# Altium footprint library levitador_original.PcbLib: 19 footprints (part 1 of 2)
Each footprint in its own frame and in the unit in brackets; x right, y up, seen from the top. Pads: shape width x height; smd on the part's side, far side on the other; paste and mask are expansions set on the pad; w line width, h text height; cw(c..) or ccw(c..) is an arc to the next point about the centre after c.
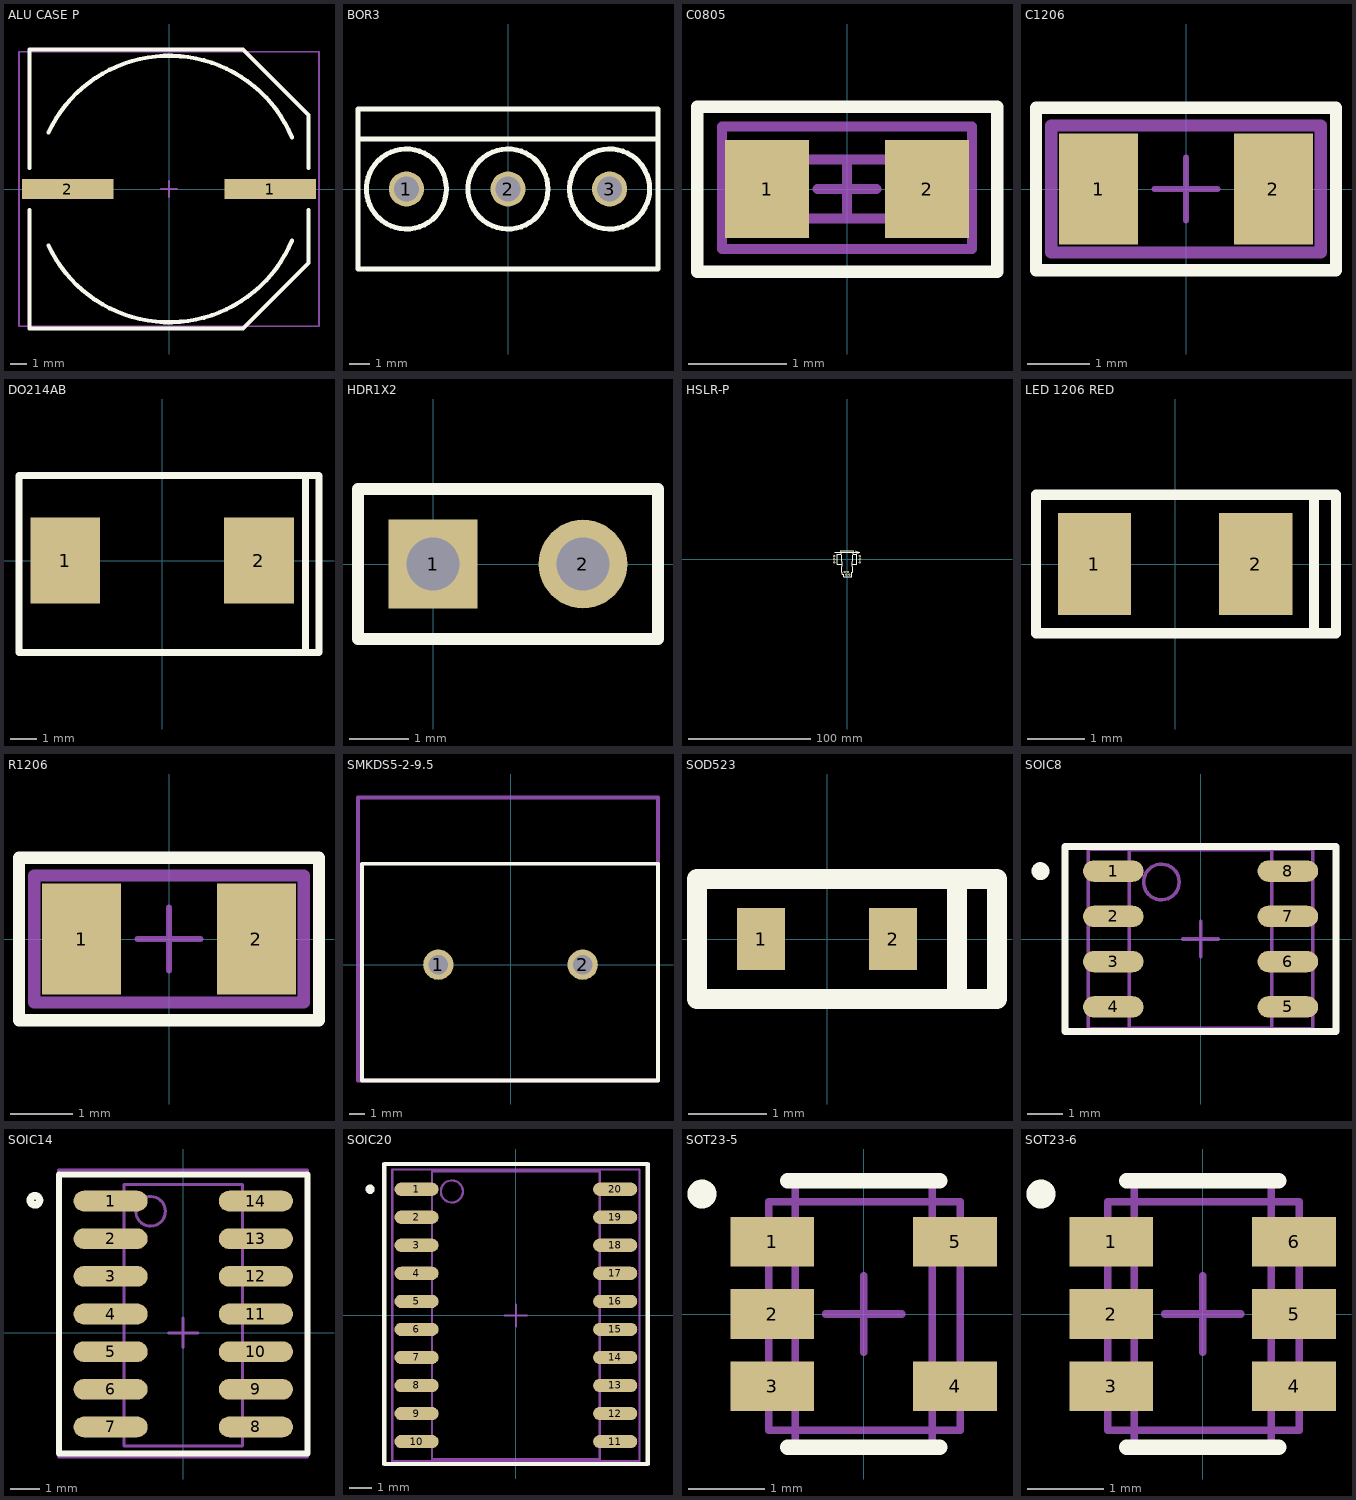
[diagram p0: the footprints below, top view; thin cyan lines are the x and y axes]

## ALU CASE P [mm] "SMD Aluminum Electrolytic; Case P; 16mm x 17mm (LxW)"
height 19
pads (2):
  rect 5.5x1.2 smd: 1(6.1,0) 2(-6.1,0)
Top Overlay:
  lines w0.254: -8.382,-1.27 -8.382,-8.382 4.445,-8.382 8.382,-4.445 8.382,-1.27 ; -8.382,1.27 -8.382,8.382 4.445,8.382 8.382,4.445 8.382,1.27 ; -7.236,-3.402 ccw(c0.01,-0.013) 7.394,-3.093 ; -7.236,3.402 cw(c0.01,0.013) 7.394,3.093
Mechanical 15:
  lines w0.1: -0.497,-0.003 0.503,-0.003 ; 0.003,-0.503 0.003,0.497 ; -9.017,-8.255 -9.017,8.255 9.017,8.255 9.017,-8.255 -9.017,-8.255
3D body: height 17.25, standoff 0.05, extent -8.65,-8.15 8.65,8.15

## BOR3 [mm] "Bornera con tornillos"
height 10.16
pads (3):
  round 1.75 hole 1.25: 1(-5.08,0) 2(0,0) 3(5.08,0)
Top Overlay:
  circle w0.254: c-5.08,0 r2
  circle w0.254: c0,0 r2
  circle w0.254: c5.08,0 r2
  lines w0.254: -7.5,2.5 2.5,2.5 7.5,2.5 ; -7.5,-4 -7.5,4 2.5,4 7.5,4 7.5,-4 -7.5,-4
3D body: height 15.2, standoff -3.5, extent -7.525,-4.453 7.475,4.547

## C0805 [mm] "Chip Capacitor, Body 2.0x1.3 mm"
height 0.4
pads (2):
  rect 0.85x1 smd: 1(-0.813,0) 2(0.813,0)
Top Overlay:
  lines w0.127: -1.524,-0.838 1.524,-0.838 1.524,0.838 -1.524,0.838 -1.524,-0.838
Mechanical 13:
  lines w0.1: -0.55,-0.3 0.55,-0.3 0.55,0.3 -0.55,0.3 -0.55,-0.3
Mechanical 15:
  lines w0.1: -0.3,0 0.3,0 ; 0,-0.3 0,0.3 ; -1.27,-0.61 1.27,-0.61 1.27,0.635 -1.27,0.635 -1.27,-0.61
3D body: height 0.78, standoff 0, extent -1,-0.615 1,0.635

## C1206 [mm] "Chip Capacitor, Body 3.0x1.5mm"
height 0.4
pads (2):
  rect 1.27x1.778 smd: 1(-1.4,0) 2(1.4,0)
Top Overlay:
  lines w0.2: -2.4,-1.3 2.4,-1.3 2.4,1.3 -2.4,1.3 -2.4,-1.3
Mechanical 15:
  lines w0.1: -0.5,0 0.5,0 ; 0,-0.5 0,0.5
  lines w0.2: -2.159,-1.016 2.159,-1.016 2.159,1.016 -2.159,1.016 -2.159,-1.016
3D body: height 1, standoff 0, extent -1.6,-0.8 1.6,0.8

## DO214AB [mil] "Diode; DO-214AB; 2 leads; Boby 6.9 x 5.9 mm (LxW)"
height 104.33
pads (2):
  rect 102x126 smd: 1(-142,0) 2(142,0)
Top Overlay:
  lines w10: 210,-135 210,125 ; -210,-135 -210,125 230,125 230,-135 -210,-135
3D body: height 103, standoff -1, extent -145,-129 175,119

## HDR1X2 [mm] "Connector; Header; 2 Position"
pads (2):
  rect 1.5x1.5 hole 0.9: 1(0,0)
  round 1.5 hole 0.9: 2(2.54,0)
Top Overlay:
  lines w0.2: -1.27,-1.27 -1.27,1.27 3.81,1.27 3.81,-1.27 -1.27,-1.27

## HSLR-P [mm]
height 12
pads (10):
  round 1.9 hole 1: 1(-1.905,-10.31) 2(-0.635,-12.51) 3(0.635,-10.31) 4(1.905,-12.51) 5(10.5,-2.54) 6(10.5,0) 7(10.5,2.54) 8(-10.5,2.54) 9(-10.5,0) 10(-10.5,-2.54)
Top Overlay:
  lines w0.254: -9.906,5.588 10.541,5.588 ; -4.572,3.937 -8.001,3.937 -8.001,-3.937 -4.064,-3.937 ; -4.4,-10.414 -3.81,-10.414 -3.81,-12.065 -2.54,-12.065 -2.54,-14.351 3.683,-14.351 3.683,-10.414 4.4,-10.414 ; -4.4,-10.4 ccw(c-63.301,-3.844) -5,6.8 5,6.8 ccw(c63.301,-3.844) 4.4,-10.4 ; 4.064,-3.937 8.001,-3.937 8.001,3.937 4.572,3.937 ; 6.731,4.191 10.541,5.588 ; 6.731,6.985 10.541,5.588
3D body: height 12, standoff 0, extent -4.953,-9.398 5.08,6.858

## LED 1206 RED [mm] "Led SMD 1206"
height 0.508
pads (2):
  rect 1.27x1.778 smd: 1(-1.4,0) 2(1.4,0)
Top Overlay:
  lines w0.178: 2.413,-1.2 2.794,-1.2 2.794,1.2 2.413,1.2 ; 2.413,-1.2 2.413,1.2 ; 2.413,-1.2 -2.413,-1.2 -2.413,1.2 2.413,1.2
3D body: height 0.2, standoff 0.13, extent -0.229,-0.229 0.229,0.229
3D body: height 0.13, standoff 0.03, extent -1.143,-0.508 0.356,0.508
3D body: height 0.5, standoff 0, extent 1.14,-0.779 1.752,0.804
3D body: height 0.5, standoff 0, extent -1.051,-0.776 1.158,0.81
3D body: height 0.5, standoff 0, extent -1.66,-0.779 -1.048,0.804

## R1206 [mm] "Chip Resistor, Body 3.0x1.5mm"
height 0.4
pads (2):
  rect 1.27x1.778 smd: 1(-1.4,0) 2(1.4,0)
Top Overlay:
  lines w0.2: -2.4,-1.3 2.4,-1.3 2.4,1.3 -2.4,1.3 -2.4,-1.3
Mechanical 15:
  lines w0.1: -0.5,0 0.5,0 ; 0,-0.5 0,0.5
  lines w0.2: -2.159,-1.016 2.159,-1.016 2.159,1.016 -2.159,1.016 -2.159,-1.016
3D body: height 1, standoff 0, extent -1.6,-0.8 1.6,0.8

## SMKDS5-2-9.5 [mm] "Phoenix Contact; Terminal block; 2way; 32A max; 9.52mm pitch; 135°"
height 21.5
pads (2):
  round 2 hole 1.3: 1(-4.76,0) 2(4.76,0)
Top Overlay:
  lines w0.254: -9.804,-7.645 9.728,-7.645 9.728,6.655 -9.804,6.655 -9.804,-7.645
Mechanical 13:
  lines w0.254: -10.058,-7.645 -10.058,11.024 9.728,11.024 9.728,-7.645 -10.058,-7.645
3D body: height 21.5, standoff -5, extent -10.084,-7.496 9.526,11.002

## SOD523 [mil] "Diode; SOD523 / SC-79 / SCD-80; 2 Leads; Body 1.2 x 0.8 mm, (LxW)"
height 31
pads (2):
  rect 24x31 smd: 1(-33,0) 2(33,0)
Top Overlay:
  lines w10: 65,-30 -65,-30 -65,30 65,30 ; 65,-30 65,30 ; 65,-30 85,-30 85,30 65,30
3D body: height 27.56, standoff 0, extent -31.5,-15.7 31.5,15.7

## SOIC8 [mm] "SOIC, 8-Leads, 150mils; Body 4.9x3.9mm, Pitch 1.27mm, IPC High Density"
height 2.72
pads (8):
  oval 1.7x0.6 smd: 1(-2.45,1.905) 2(-2.45,0.635) 3(-2.45,-0.635) 4(-2.45,-1.905) 5(2.45,-1.905) 6(2.45,-0.635) 7(2.45,0.635) 8(2.45,1.905)
Top Overlay:
  circle w0.25: c-4.494,1.905 r0.125
  lines w0.2: -3.8,-2.6 -3.8,2.6 3.8,2.6 3.8,-2.6 -3.8,-2.6
Mechanical 13:
  circle w0.1: c-1.1,1.6 r0.5
  lines w0.1: -2,-2.5 -2,2.5 2,2.5 2,-2.5 -2,-2.5
Mechanical 15:
  lines w0.1: -0.5,0 0.5,0 ; 0,-0.5 0,0.5 ; -3.15,-2.515 -3.15,2.515 3.15,2.515 3.15,-2.515 -3.15,-2.515
3D body: height 1.7, standoff 0, extent -3.099,-2.388 3.099,2.438

## SOIC14 [mm] "SOIC, 14-Leads, 150mils; Body 9.9x..mm, Pitch 1.27mm, IPC Low Density"
height 1.75
pads (14):
  oval 2.5x0.7 smd: 1(-2.45,4.445) 2(-2.45,3.175) 3(-2.45,1.905) 4(-2.45,0.635) 5(-2.45,-0.635) 6(-2.45,-1.905) 7(-2.45,-3.175) 8(2.45,-3.175) 9(2.45,-1.905) 10(2.45,-0.635) 11(2.45,0.635) 12(2.45,1.905) 13(2.45,3.175) 14(2.45,4.445)
Top Overlay:
  circle w0.25: c-5.002,4.47 r0.156
  lines w0.2: -4.191,-4.064 -4.191,5.334 4.191,5.334 4.191,-4.064 -4.191,-4.064
Mechanical 13:
  circle w0.1: c-1.1,4.1 r0.5
  lines w0.1: -2,-3.81 -2,5 2,5 2,-3.81 -2,-3.81
Mechanical 15:
  lines w0.1: -0.5,0 0.5,0 ; 0,-0.5 0,0.5 ; -4.2,-4.191 -4.2,5.5 4.2,5.5 4.2,-4.191 -4.2,-4.191
3D body: height 1.7, standoff 0, extent -3.124,-3.683 3.073,4.953

## SOIC20 [mm] "SOIC, 20-Leads, Body xxxx7.5mm, Pitch 1.27mm, IPC High Density"
height 2.65
pads (20):
  oval 2x0.6 smd: 1(-4.5,5.715) 2(-4.5,4.445) 3(-4.5,3.175) 4(-4.5,1.905) 5(-4.5,0.635) 6(-4.5,-0.635) 7(-4.5,-1.905) 8(-4.5,-3.175) 9(-4.5,-4.445) 10(-4.5,-5.715) 11(4.5,-5.715) 12(4.5,-4.445) 13(4.5,-3.175) 14(4.5,-1.905) 15(4.5,-0.635) 16(4.5,0.635) 17(4.5,1.905) 18(4.5,3.175) 19(4.5,4.445) 20(4.5,5.715)
Top Overlay:
  circle w0.25: c-6.6,5.715 r0.082
  lines w0.2: -5.969,-6.731 -5.969,6.858 5.969,6.858 5.969,-6.731 -5.969,-6.731
Mechanical 13:
  circle w0.1: c-2.9,5.615 r0.5
  lines w0.1: -3.8,-6.515 -3.8,6.515 3.8,6.515 3.8,-6.515 -3.8,-6.515
Mechanical 15:
  lines w0.1: -0.5,0 0.5,0 ; 0,-0.5 0,0.5 ; -5.6,-6.61 -5.6,6.61 5.6,6.61 5.6,-6.61 -5.6,-6.61
3D body: height 2.66, standoff 0, extent -5.315,-6.5 5.315,6.5

## SOT23-5 [mm]
pads (5):
  rect 1.1x0.65 smd: 1(-1.2,0.95) 2(-1.2,0) 3(-1.2,-0.95) 4(1.2,-0.95) 5(1.2,0.95)
Top Overlay:
  circle w0.25: c-2.122,1.575 r0.065
  lines w0.2: -1,-1.75 1,-1.75 ; -1,1.75 1,1.75
Mechanical 13:
  lines w0.1: -0.9,-1.778 -0.9,1.778 0.9,1.778 0.9,-1.778 -0.9,-1.778
Mechanical 15:
  lines w0.1: -0.5,0 0.5,0 ; 0,-0.5 0,0.5 ; -1.245,-1.524 -1.245,1.473 1.27,1.473 1.27,-1.524 -1.245,-1.524
3D body: height 1.39, standoff -0.07, extent -1.5,-1.5 1.5,1.5

## SOT23-6 [mm]
pads (6):
  rect 1.1x0.65 smd: 1(-1.2,0.95) 2(-1.2,0) 3(-1.2,-0.95) 4(1.2,-0.95) 5(1.2,0) 6(1.2,0.95)
Top Overlay:
  circle w0.25: c-2.122,1.575 r0.065
  lines w0.2: -1,-1.75 1,-1.75 ; -1,1.75 1,1.75
Mechanical 13:
  lines w0.1: -0.9,-1.778 -0.9,1.778 0.9,1.778 0.9,-1.778 -0.9,-1.778
Mechanical 15:
  lines w0.1: -0.5,0 0.5,0 ; 0,-0.5 0,0.5 ; -1.245,-1.524 -1.245,1.473 1.27,1.473 1.27,-1.524 -1.245,-1.524
3D body: height 1.39, standoff -0.07, extent -1.5,-1.5 1.5,1.5